# Altium footprint library Connector_PinSocket_1.00mm.PcbLib: 156 footprints (part 10 of 10)
Each footprint in its own frame and in the unit in brackets; x right, y up, seen from the top. Pads: shape width x height; smd on the part's side, far side on the other; paste and mask are expansions set on the pad; w line width, h text height; cw(c..) or ccw(c..) is an arc to the next point about the centre after c.
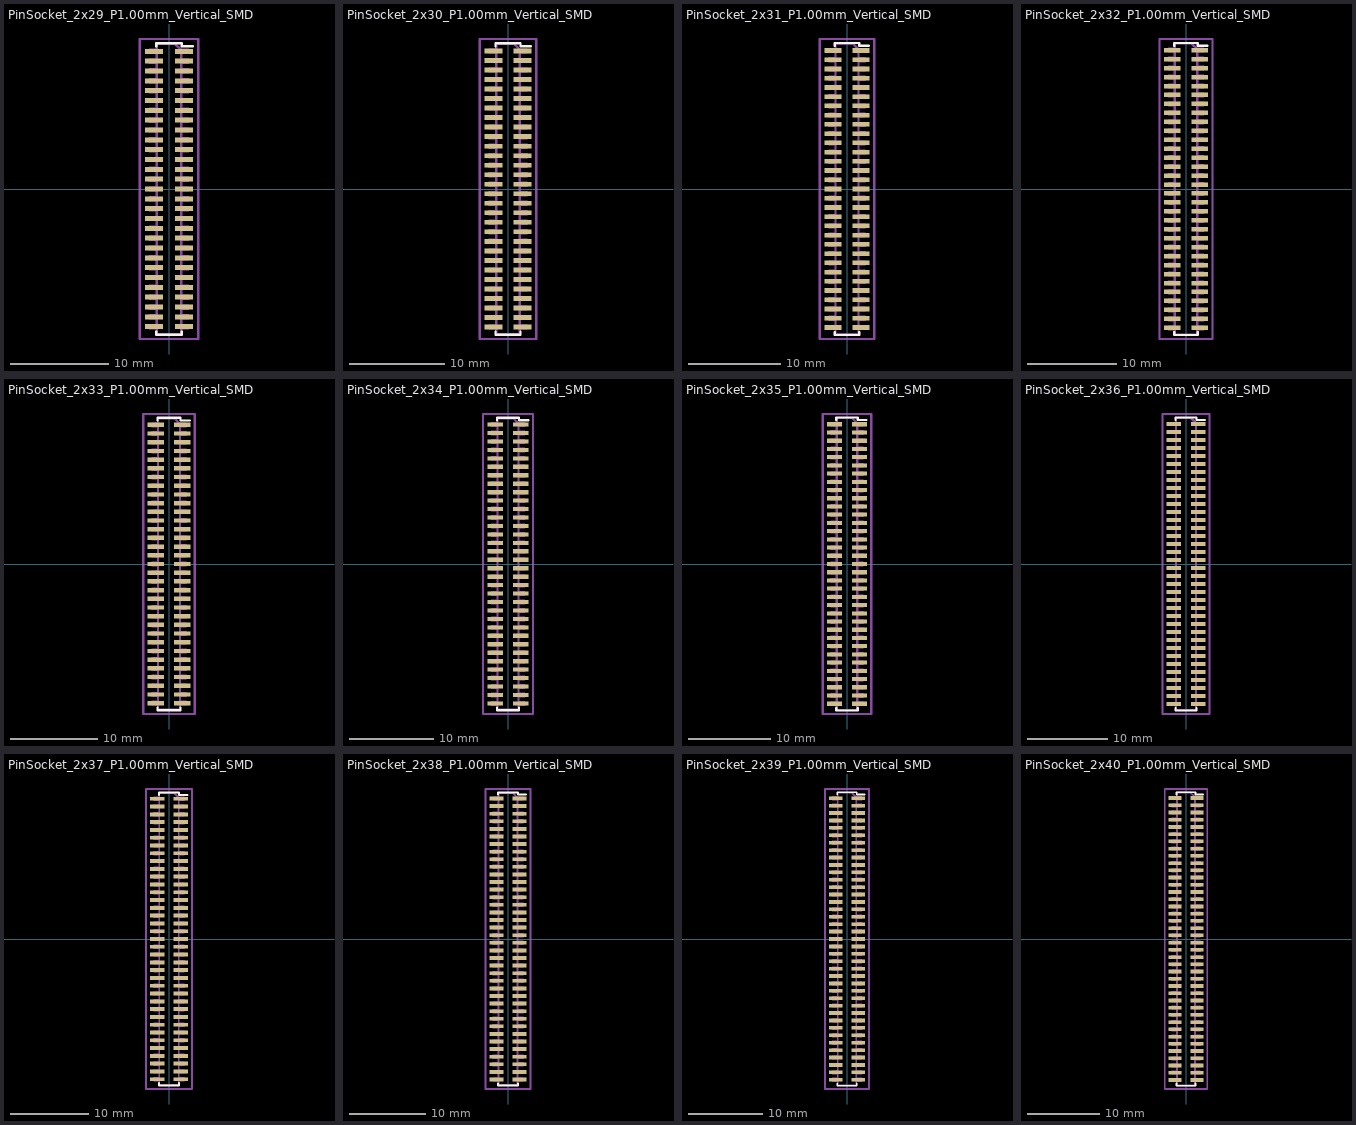
[diagram p9: the footprints below, top view; thin cyan lines are the x and y axes]

## PinSocket_2x29_P1.00mm_Vertical_SMD [mm]
pads (58):
  rect 1.85x0.5 smd: 1(1.525,14) 2(-1.525,14) 3(1.525,13) 4(-1.525,13) 5(1.525,12) 6(-1.525,12) 7(1.525,11) 8(-1.525,11) 9(1.525,10) 10(-1.525,10) 11(1.525,9) 12(-1.525,9) 13(1.525,8) 14(-1.525,8) 15(1.525,7) 16(-1.525,7) 17(1.525,6) 18(-1.525,6) 19(1.525,5) 20(-1.525,5) 21(1.525,4) 22(-1.525,4) 23(1.525,3) 24(-1.525,3) 25(1.525,2) 26(-1.525,2) 27(1.525,1) 28(-1.525,1) 29(1.525,0) 30(-1.525,0) 31(1.525,-1) 32(-1.525,-1) 33(1.525,-2) 34(-1.525,-2) 35(1.525,-3) 36(-1.525,-3) 37(1.525,-4) 38(-1.525,-4) 39(1.525,-5) 40(-1.525,-5) 41(1.525,-6) 42(-1.525,-6) 43(1.525,-7) 44(-1.525,-7) 45(1.525,-8) 46(-1.525,-8) 47(1.525,-9) 48(-1.525,-9) 49(1.525,-10) 50(-1.525,-10) 51(1.525,-11) 52(-1.525,-11) 53(1.525,-12) 54(-1.525,-12) 55(1.525,-13) 56(-1.525,-13) 57(1.525,-14) 58(-1.525,-14)
F.SilkS:
  lines w0.254: -1.31,-14.51 -1.31,-14.81 1.31,-14.81 1.31,-14.51 ; -1.31,14.51 -1.31,14.81 1.31,14.81 1.31,14.51 2.39,14.51
Top Assembly:
  drawing of 179 lines, arcs and shapes, not listed
  text "'.Designator'" at 0.84,-4.047 h1
Top Courtyard:
  lines w0.254: -2.95,-15.25 2.95,-15.25 2.95,15.25 -2.95,15.25 -2.95,-15.25
Top Designator:
  text ".Designator" at -7.618,-0.508 h1.52

## PinSocket_2x30_P1.00mm_Vertical_SMD [mm]
pads (60):
  rect 1.85x0.5 smd: 1(1.525,14.5) 2(-1.525,14.5) 3(1.525,13.5) 4(-1.525,13.5) 5(1.525,12.5) 6(-1.525,12.5) 7(1.525,11.5) 8(-1.525,11.5) 9(1.525,10.5) 10(-1.525,10.5) 11(1.525,9.5) 12(-1.525,9.5) 13(1.525,8.5) 14(-1.525,8.5) 15(1.525,7.5) 16(-1.525,7.5) 17(1.525,6.5) 18(-1.525,6.5) 19(1.525,5.5) 20(-1.525,5.5) 21(1.525,4.5) 22(-1.525,4.5) 23(1.525,3.5) 24(-1.525,3.5) 25(1.525,2.5) 26(-1.525,2.5) 27(1.525,1.5) 28(-1.525,1.5) 29(1.525,0.5) 30(-1.525,0.5) 31(1.525,-0.5) 32(-1.525,-0.5) 33(1.525,-1.5) 34(-1.525,-1.5) 35(1.525,-2.5) 36(-1.525,-2.5) 37(1.525,-3.5) 38(-1.525,-3.5) 39(1.525,-4.5) 40(-1.525,-4.5) 41(1.525,-5.5) 42(-1.525,-5.5) 43(1.525,-6.5) 44(-1.525,-6.5) 45(1.525,-7.5) 46(-1.525,-7.5) 47(1.525,-8.5) 48(-1.525,-8.5) 49(1.525,-9.5) 50(-1.525,-9.5) 51(1.525,-10.5) 52(-1.525,-10.5) 53(1.525,-11.5) 54(-1.525,-11.5) 55(1.525,-12.5) 56(-1.525,-12.5) 57(1.525,-13.5) 58(-1.525,-13.5) 59(1.525,-14.5) 60(-1.525,-14.5)
F.SilkS:
  lines w0.254: -1.31,-15.01 -1.31,-15.31 1.31,-15.31 1.31,-15.01 ; -1.31,15.01 -1.31,15.31 1.31,15.31 1.31,15.01 2.39,15.01
Top Assembly:
  drawing of 185 lines, arcs and shapes, not listed
  text "'.Designator'" at 0.84,-4.047 h1
Top Courtyard:
  lines w0.254: -2.95,-15.75 2.95,-15.75 2.95,15.75 -2.95,15.75 -2.95,-15.75
Top Designator:
  text ".Designator" at -7.618,-0.508 h1.52

## PinSocket_2x31_P1.00mm_Vertical_SMD [mm]
pads (62):
  rect 1.85x0.5 smd: 1(1.525,15) 2(-1.525,15) 3(1.525,14) 4(-1.525,14) 5(1.525,13) 6(-1.525,13) 7(1.525,12) 8(-1.525,12) 9(1.525,11) 10(-1.525,11) 11(1.525,10) 12(-1.525,10) 13(1.525,9) 14(-1.525,9) 15(1.525,8) 16(-1.525,8) 17(1.525,7) 18(-1.525,7) 19(1.525,6) 20(-1.525,6) 21(1.525,5) 22(-1.525,5) 23(1.525,4) 24(-1.525,4) 25(1.525,3) 26(-1.525,3) 27(1.525,2) 28(-1.525,2) 29(1.525,1) 30(-1.525,1) 31(1.525,0) 32(-1.525,0) 33(1.525,-1) 34(-1.525,-1) 35(1.525,-2) 36(-1.525,-2) 37(1.525,-3) 38(-1.525,-3) 39(1.525,-4) 40(-1.525,-4) 41(1.525,-5) 42(-1.525,-5) 43(1.525,-6) 44(-1.525,-6) 45(1.525,-7) 46(-1.525,-7) 47(1.525,-8) 48(-1.525,-8) 49(1.525,-9) 50(-1.525,-9) 51(1.525,-10) 52(-1.525,-10) 53(1.525,-11) 54(-1.525,-11) 55(1.525,-12) 56(-1.525,-12) 57(1.525,-13) 58(-1.525,-13) 59(1.525,-14) 60(-1.525,-14) 61(1.525,-15) 62(-1.525,-15)
F.SilkS:
  lines w0.254: -1.31,-15.51 -1.31,-15.81 1.31,-15.81 1.31,-15.51 ; -1.31,15.51 -1.31,15.81 1.31,15.81 1.31,15.51 2.39,15.51
Top Assembly:
  drawing of 191 lines, arcs and shapes, not listed
  text "'.Designator'" at 0.84,-4.047 h1
Top Courtyard:
  lines w0.254: -2.95,-16.25 2.95,-16.25 2.95,16.25 -2.95,16.25 -2.95,-16.25
Top Designator:
  text ".Designator" at -7.618,-0.508 h1.52

## PinSocket_2x32_P1.00mm_Vertical_SMD [mm]
pads (64):
  rect 1.85x0.5 smd: 1(1.525,15.5) 2(-1.525,15.5) 3(1.525,14.5) 4(-1.525,14.5) 5(1.525,13.5) 6(-1.525,13.5) 7(1.525,12.5) 8(-1.525,12.5) 9(1.525,11.5) 10(-1.525,11.5) 11(1.525,10.5) 12(-1.525,10.5) 13(1.525,9.5) 14(-1.525,9.5) 15(1.525,8.5) 16(-1.525,8.5) 17(1.525,7.5) 18(-1.525,7.5) 19(1.525,6.5) 20(-1.525,6.5) 21(1.525,5.5) 22(-1.525,5.5) 23(1.525,4.5) 24(-1.525,4.5) 25(1.525,3.5) 26(-1.525,3.5) 27(1.525,2.5) 28(-1.525,2.5) 29(1.525,1.5) 30(-1.525,1.5) 31(1.525,0.5) 32(-1.525,0.5) 33(1.525,-0.5) 34(-1.525,-0.5) 35(1.525,-1.5) 36(-1.525,-1.5) 37(1.525,-2.5) 38(-1.525,-2.5) 39(1.525,-3.5) 40(-1.525,-3.5) 41(1.525,-4.5) 42(-1.525,-4.5) 43(1.525,-5.5) 44(-1.525,-5.5) 45(1.525,-6.5) 46(-1.525,-6.5) 47(1.525,-7.5) 48(-1.525,-7.5) 49(1.525,-8.5) 50(-1.525,-8.5) 51(1.525,-9.5) 52(-1.525,-9.5) 53(1.525,-10.5) 54(-1.525,-10.5) 55(1.525,-11.5) 56(-1.525,-11.5) 57(1.525,-12.5) 58(-1.525,-12.5) 59(1.525,-13.5) 60(-1.525,-13.5) 61(1.525,-14.5) 62(-1.525,-14.5) 63(1.525,-15.5) 64(-1.525,-15.5)
F.SilkS:
  lines w0.254: -1.31,-16.01 -1.31,-16.31 1.31,-16.31 1.31,-16.01 ; -1.31,16.01 -1.31,16.31 1.31,16.31 1.31,16.01 2.39,16.01
Top Assembly:
  drawing of 197 lines, arcs and shapes, not listed
  text "'.Designator'" at 0.84,-4.047 h1
Top Courtyard:
  lines w0.254: -2.95,-16.75 2.95,-16.75 2.95,16.75 -2.95,16.75 -2.95,-16.75
Top Designator:
  text ".Designator" at -7.618,-0.508 h1.52

## PinSocket_2x33_P1.00mm_Vertical_SMD [mm]
pads (66):
  rect 1.85x0.5 smd: 1(1.525,16) 2(-1.525,16) 3(1.525,15) 4(-1.525,15) 5(1.525,14) 6(-1.525,14) 7(1.525,13) 8(-1.525,13) 9(1.525,12) 10(-1.525,12) 11(1.525,11) 12(-1.525,11) 13(1.525,10) 14(-1.525,10) 15(1.525,9) 16(-1.525,9) 17(1.525,8) 18(-1.525,8) 19(1.525,7) 20(-1.525,7) 21(1.525,6) 22(-1.525,6) 23(1.525,5) 24(-1.525,5) 25(1.525,4) 26(-1.525,4) 27(1.525,3) 28(-1.525,3) 29(1.525,2) 30(-1.525,2) 31(1.525,1) 32(-1.525,1) 33(1.525,0) 34(-1.525,0) 35(1.525,-1) 36(-1.525,-1) 37(1.525,-2) 38(-1.525,-2) 39(1.525,-3) 40(-1.525,-3) 41(1.525,-4) 42(-1.525,-4) 43(1.525,-5) 44(-1.525,-5) 45(1.525,-6) 46(-1.525,-6) 47(1.525,-7) 48(-1.525,-7) 49(1.525,-8) 50(-1.525,-8) 51(1.525,-9) 52(-1.525,-9) 53(1.525,-10) 54(-1.525,-10) 55(1.525,-11) 56(-1.525,-11) 57(1.525,-12) 58(-1.525,-12) 59(1.525,-13) 60(-1.525,-13) 61(1.525,-14) 62(-1.525,-14) 63(1.525,-15) 64(-1.525,-15) 65(1.525,-16) 66(-1.525,-16)
F.SilkS:
  lines w0.254: -1.31,-16.51 -1.31,-16.81 1.31,-16.81 1.31,-16.51 ; -1.31,16.51 -1.31,16.81 1.31,16.81 1.31,16.51 2.39,16.51
Top Assembly:
  drawing of 203 lines, arcs and shapes, not listed
  text "'.Designator'" at 0.84,-4.047 h1
Top Courtyard:
  lines w0.254: -2.95,-17.25 2.95,-17.25 2.95,17.25 -2.95,17.25 -2.95,-17.25
Top Designator:
  text ".Designator" at -7.618,-0.508 h1.52

## PinSocket_2x34_P1.00mm_Vertical_SMD [mm]
pads (68):
  rect 1.85x0.5 smd: 1(1.525,16.5) 2(-1.525,16.5) 3(1.525,15.5) 4(-1.525,15.5) 5(1.525,14.5) 6(-1.525,14.5) 7(1.525,13.5) 8(-1.525,13.5) 9(1.525,12.5) 10(-1.525,12.5) 11(1.525,11.5) 12(-1.525,11.5) 13(1.525,10.5) 14(-1.525,10.5) 15(1.525,9.5) 16(-1.525,9.5) 17(1.525,8.5) 18(-1.525,8.5) 19(1.525,7.5) 20(-1.525,7.5) 21(1.525,6.5) 22(-1.525,6.5) 23(1.525,5.5) 24(-1.525,5.5) 25(1.525,4.5) 26(-1.525,4.5) 27(1.525,3.5) 28(-1.525,3.5) 29(1.525,2.5) 30(-1.525,2.5) 31(1.525,1.5) 32(-1.525,1.5) 33(1.525,0.5) 34(-1.525,0.5) 35(1.525,-0.5) 36(-1.525,-0.5) 37(1.525,-1.5) 38(-1.525,-1.5) 39(1.525,-2.5) 40(-1.525,-2.5) 41(1.525,-3.5) 42(-1.525,-3.5) 43(1.525,-4.5) 44(-1.525,-4.5) 45(1.525,-5.5) 46(-1.525,-5.5) 47(1.525,-6.5) 48(-1.525,-6.5) 49(1.525,-7.5) 50(-1.525,-7.5) 51(1.525,-8.5) 52(-1.525,-8.5) 53(1.525,-9.5) 54(-1.525,-9.5) 55(1.525,-10.5) 56(-1.525,-10.5) 57(1.525,-11.5) 58(-1.525,-11.5) 59(1.525,-12.5) 60(-1.525,-12.5) 61(1.525,-13.5) 62(-1.525,-13.5) 63(1.525,-14.5) 64(-1.525,-14.5) 65(1.525,-15.5) 66(-1.525,-15.5) 67(1.525,-16.5) 68(-1.525,-16.5)
F.SilkS:
  lines w0.254: -1.31,-17.01 -1.31,-17.31 1.31,-17.31 1.31,-17.01 ; -1.31,17.01 -1.31,17.31 1.31,17.31 1.31,17.01 2.39,17.01
Top Assembly:
  drawing of 209 lines, arcs and shapes, not listed
  text "'.Designator'" at 0.84,-4.047 h1
Top Courtyard:
  lines w0.254: -2.95,-17.75 2.95,-17.75 2.95,17.75 -2.95,17.75 -2.95,-17.75
Top Designator:
  text ".Designator" at -7.618,-0.508 h1.52

## PinSocket_2x35_P1.00mm_Vertical_SMD [mm]
pads (70):
  rect 1.85x0.5 smd: 1(1.525,17) 2(-1.525,17) 3(1.525,16) 4(-1.525,16) 5(1.525,15) 6(-1.525,15) 7(1.525,14) 8(-1.525,14) 9(1.525,13) 10(-1.525,13) 11(1.525,12) 12(-1.525,12) 13(1.525,11) 14(-1.525,11) 15(1.525,10) 16(-1.525,10) 17(1.525,9) 18(-1.525,9) 19(1.525,8) 20(-1.525,8) 21(1.525,7) 22(-1.525,7) 23(1.525,6) 24(-1.525,6) 25(1.525,5) 26(-1.525,5) 27(1.525,4) 28(-1.525,4) 29(1.525,3) 30(-1.525,3) 31(1.525,2) 32(-1.525,2) 33(1.525,1) 34(-1.525,1) 35(1.525,0) 36(-1.525,0) 37(1.525,-1) 38(-1.525,-1) 39(1.525,-2) 40(-1.525,-2) 41(1.525,-3) 42(-1.525,-3) 43(1.525,-4) 44(-1.525,-4) 45(1.525,-5) 46(-1.525,-5) 47(1.525,-6) 48(-1.525,-6) 49(1.525,-7) 50(-1.525,-7) 51(1.525,-8) 52(-1.525,-8) 53(1.525,-9) 54(-1.525,-9) 55(1.525,-10) 56(-1.525,-10) 57(1.525,-11) 58(-1.525,-11) 59(1.525,-12) 60(-1.525,-12) 61(1.525,-13) 62(-1.525,-13) 63(1.525,-14) 64(-1.525,-14) 65(1.525,-15) 66(-1.525,-15) 67(1.525,-16) 68(-1.525,-16) 69(1.525,-17) 70(-1.525,-17)
F.SilkS:
  lines w0.254: -1.31,-17.51 -1.31,-17.81 1.31,-17.81 1.31,-17.51 ; -1.31,17.51 -1.31,17.81 1.31,17.81 1.31,17.51 2.39,17.51
Top Assembly:
  drawing of 215 lines, arcs and shapes, not listed
  text "'.Designator'" at 0.84,-4.047 h1
Top Courtyard:
  lines w0.254: -2.95,-18.25 2.95,-18.25 2.95,18.25 -2.95,18.25 -2.95,-18.25
Top Designator:
  text ".Designator" at -7.618,-0.508 h1.52

## PinSocket_2x36_P1.00mm_Vertical_SMD [mm]
pads (72):
  rect 1.85x0.5 smd: 1(1.525,17.5) 2(-1.525,17.5) 3(1.525,16.5) 4(-1.525,16.5) 5(1.525,15.5) 6(-1.525,15.5) 7(1.525,14.5) 8(-1.525,14.5) 9(1.525,13.5) 10(-1.525,13.5) 11(1.525,12.5) 12(-1.525,12.5) 13(1.525,11.5) 14(-1.525,11.5) 15(1.525,10.5) 16(-1.525,10.5) 17(1.525,9.5) 18(-1.525,9.5) 19(1.525,8.5) 20(-1.525,8.5) 21(1.525,7.5) 22(-1.525,7.5) 23(1.525,6.5) 24(-1.525,6.5) 25(1.525,5.5) 26(-1.525,5.5) 27(1.525,4.5) 28(-1.525,4.5) 29(1.525,3.5) 30(-1.525,3.5) 31(1.525,2.5) 32(-1.525,2.5) 33(1.525,1.5) 34(-1.525,1.5) 35(1.525,0.5) 36(-1.525,0.5) 37(1.525,-0.5) 38(-1.525,-0.5) 39(1.525,-1.5) 40(-1.525,-1.5) 41(1.525,-2.5) 42(-1.525,-2.5) 43(1.525,-3.5) 44(-1.525,-3.5) 45(1.525,-4.5) 46(-1.525,-4.5) 47(1.525,-5.5) 48(-1.525,-5.5) 49(1.525,-6.5) 50(-1.525,-6.5) 51(1.525,-7.5) 52(-1.525,-7.5) 53(1.525,-8.5) 54(-1.525,-8.5) 55(1.525,-9.5) 56(-1.525,-9.5) 57(1.525,-10.5) 58(-1.525,-10.5) 59(1.525,-11.5) 60(-1.525,-11.5) 61(1.525,-12.5) 62(-1.525,-12.5) 63(1.525,-13.5) 64(-1.525,-13.5) 65(1.525,-14.5) 66(-1.525,-14.5) 67(1.525,-15.5) 68(-1.525,-15.5) 69(1.525,-16.5) 70(-1.525,-16.5) 71(1.525,-17.5) 72(-1.525,-17.5)
F.SilkS:
  lines w0.254: -1.31,-18.01 -1.31,-18.31 1.31,-18.31 1.31,-18.01 ; -1.31,18.01 -1.31,18.31 1.31,18.31 1.31,18.01 2.39,18.01
Top Assembly:
  drawing of 221 lines, arcs and shapes, not listed
  text "'.Designator'" at 0.84,-4.047 h1
Top Courtyard:
  lines w0.254: -2.95,-18.75 2.95,-18.75 2.95,18.75 -2.95,18.75 -2.95,-18.75
Top Designator:
  text ".Designator" at -7.618,-0.508 h1.52

## PinSocket_2x37_P1.00mm_Vertical_SMD [mm]
pads (74):
  rect 1.85x0.5 smd: 1(1.525,18) 2(-1.525,18) 3(1.525,17) 4(-1.525,17) 5(1.525,16) 6(-1.525,16) 7(1.525,15) 8(-1.525,15) 9(1.525,14) 10(-1.525,14) 11(1.525,13) 12(-1.525,13) 13(1.525,12) 14(-1.525,12) 15(1.525,11) 16(-1.525,11) 17(1.525,10) 18(-1.525,10) 19(1.525,9) 20(-1.525,9) 21(1.525,8) 22(-1.525,8) 23(1.525,7) 24(-1.525,7) 25(1.525,6) 26(-1.525,6) 27(1.525,5) 28(-1.525,5) 29(1.525,4) 30(-1.525,4) 31(1.525,3) 32(-1.525,3) 33(1.525,2) 34(-1.525,2) 35(1.525,1) 36(-1.525,1) 37(1.525,0) 38(-1.525,0) 39(1.525,-1) 40(-1.525,-1) 41(1.525,-2) 42(-1.525,-2) 43(1.525,-3) 44(-1.525,-3) 45(1.525,-4) 46(-1.525,-4) 47(1.525,-5) 48(-1.525,-5) 49(1.525,-6) 50(-1.525,-6) 51(1.525,-7) 52(-1.525,-7) 53(1.525,-8) 54(-1.525,-8) 55(1.525,-9) 56(-1.525,-9) 57(1.525,-10) 58(-1.525,-10) 59(1.525,-11) 60(-1.525,-11) 61(1.525,-12) 62(-1.525,-12) 63(1.525,-13) 64(-1.525,-13) 65(1.525,-14) 66(-1.525,-14) 67(1.525,-15) 68(-1.525,-15) 69(1.525,-16) 70(-1.525,-16) 71(1.525,-17) 72(-1.525,-17) 73(1.525,-18) 74(-1.525,-18)
F.SilkS:
  lines w0.254: -1.31,-18.51 -1.31,-18.81 1.31,-18.81 1.31,-18.51 ; -1.31,18.51 -1.31,18.81 1.31,18.81 1.31,18.51 2.39,18.51
Top Assembly:
  drawing of 227 lines, arcs and shapes, not listed
  text "'.Designator'" at 0.84,-4.047 h1
Top Courtyard:
  lines w0.254: -2.95,-19.25 2.95,-19.25 2.95,19.25 -2.95,19.25 -2.95,-19.25
Top Designator:
  text ".Designator" at -7.618,-0.508 h1.52

## PinSocket_2x38_P1.00mm_Vertical_SMD [mm]
pads (76):
  rect 1.85x0.5 smd: 1(1.525,18.5) 2(-1.525,18.5) 3(1.525,17.5) 4(-1.525,17.5) 5(1.525,16.5) 6(-1.525,16.5) 7(1.525,15.5) 8(-1.525,15.5) 9(1.525,14.5) 10(-1.525,14.5) 11(1.525,13.5) 12(-1.525,13.5) 13(1.525,12.5) 14(-1.525,12.5) 15(1.525,11.5) 16(-1.525,11.5) 17(1.525,10.5) 18(-1.525,10.5) 19(1.525,9.5) 20(-1.525,9.5) 21(1.525,8.5) 22(-1.525,8.5) 23(1.525,7.5) 24(-1.525,7.5) 25(1.525,6.5) 26(-1.525,6.5) 27(1.525,5.5) 28(-1.525,5.5) 29(1.525,4.5) 30(-1.525,4.5) 31(1.525,3.5) 32(-1.525,3.5) 33(1.525,2.5) 34(-1.525,2.5) 35(1.525,1.5) 36(-1.525,1.5) 37(1.525,0.5) 38(-1.525,0.5) 39(1.525,-0.5) 40(-1.525,-0.5) 41(1.525,-1.5) 42(-1.525,-1.5) 43(1.525,-2.5) 44(-1.525,-2.5) 45(1.525,-3.5) 46(-1.525,-3.5) 47(1.525,-4.5) 48(-1.525,-4.5) 49(1.525,-5.5) 50(-1.525,-5.5) 51(1.525,-6.5) 52(-1.525,-6.5) 53(1.525,-7.5) 54(-1.525,-7.5) 55(1.525,-8.5) 56(-1.525,-8.5) 57(1.525,-9.5) 58(-1.525,-9.5) 59(1.525,-10.5) 60(-1.525,-10.5) 61(1.525,-11.5) 62(-1.525,-11.5) 63(1.525,-12.5) 64(-1.525,-12.5) 65(1.525,-13.5) 66(-1.525,-13.5) 67(1.525,-14.5) 68(-1.525,-14.5) 69(1.525,-15.5) 70(-1.525,-15.5) 71(1.525,-16.5) 72(-1.525,-16.5) 73(1.525,-17.5) 74(-1.525,-17.5) 75(1.525,-18.5) 76(-1.525,-18.5)
F.SilkS:
  lines w0.254: -1.31,-19.01 -1.31,-19.31 1.31,-19.31 1.31,-19.01 ; -1.31,19.01 -1.31,19.31 1.31,19.31 1.31,19.01 2.39,19.01
Top Assembly:
  drawing of 233 lines, arcs and shapes, not listed
  text "'.Designator'" at 0.84,-4.047 h1
Top Courtyard:
  lines w0.254: -2.95,-19.75 2.95,-19.75 2.95,19.75 -2.95,19.75 -2.95,-19.75
Top Designator:
  text ".Designator" at -7.618,-0.508 h1.52

## PinSocket_2x39_P1.00mm_Vertical_SMD [mm]
pads (78):
  rect 1.85x0.5 smd: 1(1.525,19) 2(-1.525,19) 3(1.525,18) 4(-1.525,18) 5(1.525,17) 6(-1.525,17) 7(1.525,16) 8(-1.525,16) 9(1.525,15) 10(-1.525,15) 11(1.525,14) 12(-1.525,14) 13(1.525,13) 14(-1.525,13) 15(1.525,12) 16(-1.525,12) 17(1.525,11) 18(-1.525,11) 19(1.525,10) 20(-1.525,10) 21(1.525,9) 22(-1.525,9) 23(1.525,8) 24(-1.525,8) 25(1.525,7) 26(-1.525,7) 27(1.525,6) 28(-1.525,6) 29(1.525,5) 30(-1.525,5) 31(1.525,4) 32(-1.525,4) 33(1.525,3) 34(-1.525,3) 35(1.525,2) 36(-1.525,2) 37(1.525,1) 38(-1.525,1) 39(1.525,0) 40(-1.525,0) 41(1.525,-1) 42(-1.525,-1) 43(1.525,-2) 44(-1.525,-2) 45(1.525,-3) 46(-1.525,-3) 47(1.525,-4) 48(-1.525,-4) 49(1.525,-5) 50(-1.525,-5) 51(1.525,-6) 52(-1.525,-6) 53(1.525,-7) 54(-1.525,-7) 55(1.525,-8) 56(-1.525,-8) 57(1.525,-9) 58(-1.525,-9) 59(1.525,-10) 60(-1.525,-10) 61(1.525,-11) 62(-1.525,-11) 63(1.525,-12) 64(-1.525,-12) 65(1.525,-13) 66(-1.525,-13) 67(1.525,-14) 68(-1.525,-14) 69(1.525,-15) 70(-1.525,-15) 71(1.525,-16) 72(-1.525,-16) 73(1.525,-17) 74(-1.525,-17) 75(1.525,-18) 76(-1.525,-18) 77(1.525,-19) 78(-1.525,-19)
F.SilkS:
  lines w0.254: -1.31,-19.51 -1.31,-19.81 1.31,-19.81 1.31,-19.51 ; -1.31,19.51 -1.31,19.81 1.31,19.81 1.31,19.51 2.39,19.51
Top Assembly:
  drawing of 239 lines, arcs and shapes, not listed
  text "'.Designator'" at 0.84,-4.047 h1
Top Courtyard:
  lines w0.254: -2.95,-20.25 2.95,-20.25 2.95,20.25 -2.95,20.25 -2.95,-20.25
Top Designator:
  text ".Designator" at -7.618,-0.508 h1.52

## PinSocket_2x40_P1.00mm_Vertical_SMD [mm]
pads (80):
  rect 1.85x0.5 smd: 1(1.525,19.5) 2(-1.525,19.5) 3(1.525,18.5) 4(-1.525,18.5) 5(1.525,17.5) 6(-1.525,17.5) 7(1.525,16.5) 8(-1.525,16.5) 9(1.525,15.5) 10(-1.525,15.5) 11(1.525,14.5) 12(-1.525,14.5) 13(1.525,13.5) 14(-1.525,13.5) 15(1.525,12.5) 16(-1.525,12.5) 17(1.525,11.5) 18(-1.525,11.5) 19(1.525,10.5) 20(-1.525,10.5) 21(1.525,9.5) 22(-1.525,9.5) 23(1.525,8.5) 24(-1.525,8.5) 25(1.525,7.5) 26(-1.525,7.5) 27(1.525,6.5) 28(-1.525,6.5) 29(1.525,5.5) 30(-1.525,5.5) 31(1.525,4.5) 32(-1.525,4.5) 33(1.525,3.5) 34(-1.525,3.5) 35(1.525,2.5) 36(-1.525,2.5) 37(1.525,1.5) 38(-1.525,1.5) 39(1.525,0.5) 40(-1.525,0.5) 41(1.525,-0.5) 42(-1.525,-0.5) 43(1.525,-1.5) 44(-1.525,-1.5) 45(1.525,-2.5) 46(-1.525,-2.5) 47(1.525,-3.5) 48(-1.525,-3.5) 49(1.525,-4.5) 50(-1.525,-4.5) 51(1.525,-5.5) 52(-1.525,-5.5) 53(1.525,-6.5) 54(-1.525,-6.5) 55(1.525,-7.5) 56(-1.525,-7.5) 57(1.525,-8.5) 58(-1.525,-8.5) 59(1.525,-9.5) 60(-1.525,-9.5) 61(1.525,-10.5) 62(-1.525,-10.5) 63(1.525,-11.5) 64(-1.525,-11.5) 65(1.525,-12.5) 66(-1.525,-12.5) 67(1.525,-13.5) 68(-1.525,-13.5) 69(1.525,-14.5) 70(-1.525,-14.5) 71(1.525,-15.5) 72(-1.525,-15.5) 73(1.525,-16.5) 74(-1.525,-16.5) 75(1.525,-17.5) 76(-1.525,-17.5) 77(1.525,-18.5) 78(-1.525,-18.5) 79(1.525,-19.5) 80(-1.525,-19.5)
F.SilkS:
  lines w0.254: -1.31,-20.01 -1.31,-20.31 1.31,-20.31 1.31,-20.01 ; -1.31,20.01 -1.31,20.31 1.31,20.31 1.31,20.01 2.39,20.01
Top Assembly:
  drawing of 245 lines, arcs and shapes, not listed
  text "'.Designator'" at 0.84,-4.047 h1
Top Courtyard:
  lines w0.254: -2.95,-20.75 2.95,-20.75 2.95,20.75 -2.95,20.75 -2.95,-20.75
Top Designator:
  text ".Designator" at -7.618,-0.508 h1.52